# EAGLE library part ULN2003APG(SC,M) (library Toshiba_By_element14_Batch_1)
Darlington Sink Driver
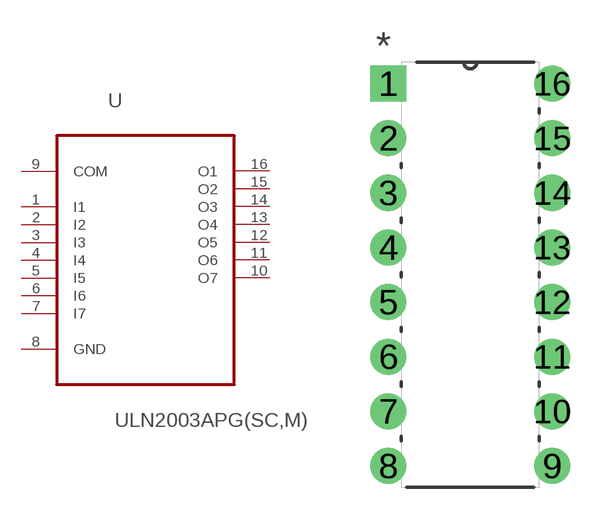
[diagram p1: symbol with the pads of DIP254P762X445-16; footprint DIP254P762X445-16]

Designator prefix U

## ULN2003APG(SC,M) (MPN: ULN2003APG(SC,M); OC_FARNELL: 1047756; OC_NEWARK: -; PACKAGE: DIP-16; SUPPLIER: TOSHIBA)  [DIP254P762X445-16]
1  I1  in
2  I2  in
3  I3  in
4  I4  in
5  I5  in
6  I6  in
7  I7  in
8  GND  pas
9  COM  pas
10  O7  out
11  O6  out
12  O5  out
13  O4  out
14  O3  out
15  O2  out
16  O1  out

## Footprint DIP254P762X445-16 (pad centres in mm)
drill 1.118 square: 1 -7.62,17.78
drill 1.118: 2 -7.62,15.24; 3 -7.62,12.7; 4 -7.62,10.16; 5 -7.62,7.62; 6 -7.62,5.08; 7 -7.62,2.54; 8 -7.62,0; 9 0,0; 10 0,2.54; 11 0,5.08; 12 0,7.62; 13 0,10.16; 14 0,12.7; 15 0,15.24; 16 0,17.78